# Altium schematic symbol library DF40C-50DP-0P4V_51_.SchLib: 2 symbols
Pins are listed as number, name and electrical type; pins without a type are passive.

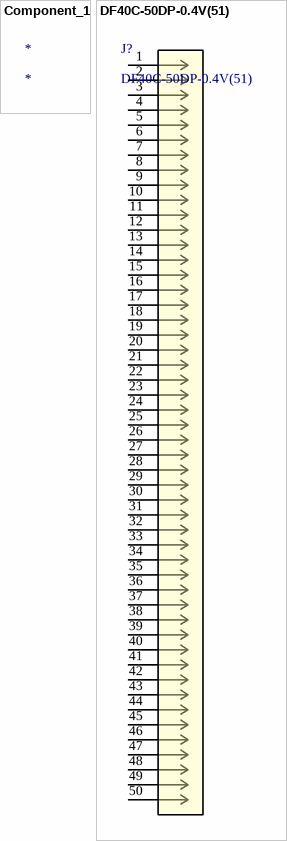
[diagram p0: symbols Component_1 to DF40C-50DP-0.4V(51)]

## Component_1
designator *

## DF40C-50DP-0.4V(51)
designator J?
No Description Available; Mfr_Name: Hirose; Copyright: Copyright (C) 2022 Ultra Librarian. All rights reserved.; Manufacturer_Part_Number: DF40C-50DP-0.4V(51); Digi-Key_Part_Number_1: H11626CT-ND; Digi-Key_Part_Number_2: H11626DKR-ND; Digi-Key_Part_Number_3: H11626TR-ND; Digi-Key_Part_Number_4: H11626TR-NDL; RefDes: RefDes; Type: DEV
footprint CONN50_6p6X2p9_hdr_HIR
pins: 1, 2, 3, 4, 5, 6, 7, 8, 9, 10, 11, 12, 13, 14, 15, 16, 17, 18, 19, 20, 21, 22, 23, 24, 25, 26, 27, 28, 29, 30, 31, 32, 33, 34, 35, 36, 37, 38, 39, 40, 41, 42, 43, 44, 45, 46, 47, 48, 49, 50